# EAGLE library part RADIO_HEAD_EDGECONNECTOR (library RitLaunchInitiative)
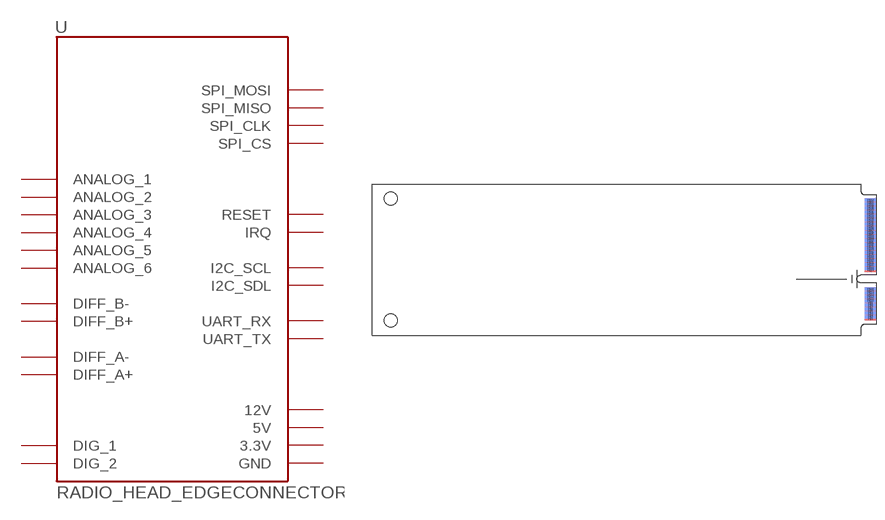
[diagram p17: symbol with the pads of PCIE_MINI_CARDEDGE; footprint PCIE_MINI_CARDEDGE]

Designator prefix -

## RADIO_HEAD_EDGECONNECTOR  [PCIE_MINI_CARDEDGE]
P$1  SPI_MOSI
P$2  SPI_CLK
P$3  GND
P$4  GND
P$5  SPI_MISO
P$6  SPI_CS
P$7  GND
P$8  GND
P$9  RESET
P$10  ANALOG_1
P$11  GND
P$12  GND
P$13  ANALOG_2
P$14  ANALOG_3
P$15  GND
P$16  GND
P$17  ANALOG_4
P$18  DIFF_A+
P$19  ANALOG_5
P$20  DIFF_A-
P$21  ANALOG_6
P$22  GND
P$23  DIG_1
P$24  DIFF_B-
P$25  DIG_2
P$26  DIFF_B+
P$27  GND
P$28  GND
P$29  3.3V
P$30  GND
P$31  3.3V
P$32  IRQ
P$33  3.3V
P$34  GND
P$35  3.3V
P$36  I2C_SDL
P$37  3.3V
P$38  GND
P$39  3.3V
P$40  I2C_SCL
P$41  5V
P$42  GND
P$43  5V
P$44  GND
P$45  12V
P$46  GND
P$47  12V
P$48  GND
P$49  12V
P$50  UART_TX
P$51  12V
P$52  UART_RX

## Footprint PCIE_MINI_CARDEDGE (pad centres in mm)
smd 2.3 x 0.6: P$1 -1.275,-11.8; P$3 -1.275,-11; P$5 -1.275,-10.2; P$7 -1.275,-9.4; P$9 -1.275,-8.6; P$11 -1.275,-7.8; P$13 -1.275,-7; P$15 -1.275,-6.2; P$17 -1.275,-2.2; P$19 -1.275,-1.4; P$21 -1.275,-0.6; P$23 -1.275,0.2; P$25 -1.275,1; P$27 -1.275,1.8; P$29 -1.275,2.6; P$31 -1.275,3.4; P$33 -1.275,4.2; P$35 -1.275,5; P$37 -1.275,5.8; P$39 -1.275,6.6; P$41 -1.275,7.4; P$43 -1.275,8.2; P$45 -1.275,9; P$47 -1.275,9.8; P$49 -1.275,10.6; P$51 -1.275,11.4
smd 2.3 x 0.6 bottom: P$2 -1.275,-11.4; P$4 -1.275,-10.6; P$6 -1.275,-9.8; P$8 -1.275,-9; P$10 -1.275,-8.2; P$12 -1.275,-7.4; P$14 -1.275,-6.6; P$16 -1.275,-5.8; P$18 -1.275,-1.8; P$20 -1.275,-1; P$22 -1.275,-0.2; P$24 -1.275,0.6; P$26 -1.275,1.4; P$28 -1.275,2.2; P$30 -1.275,3; P$32 -1.275,3.8; P$34 -1.275,4.6; P$36 -1.275,5.4; P$38 -1.275,6.2; P$40 -1.275,7; P$42 -1.275,7.8; P$44 -1.275,8.6; P$46 -1.275,9.4; P$48 -1.275,10.2; P$50 -1.275,11; P$52 -1.275,11.8
hole 2.6 at -96.31,-12.1
hole 2.6 at -96.31,12.1